# Altium footprint library Standard_SMD.PcbLib: 65 footprints (part 1 of 5)
Each footprint in its own frame and in the unit in brackets; x right, y up, seen from the top. Pads: shape width x height; smd on the part's side, far side on the other; paste and mask are expansions set on the pad; w line width, h text height; cw(c..) or ccw(c..) is an arc to the next point about the centre after c.
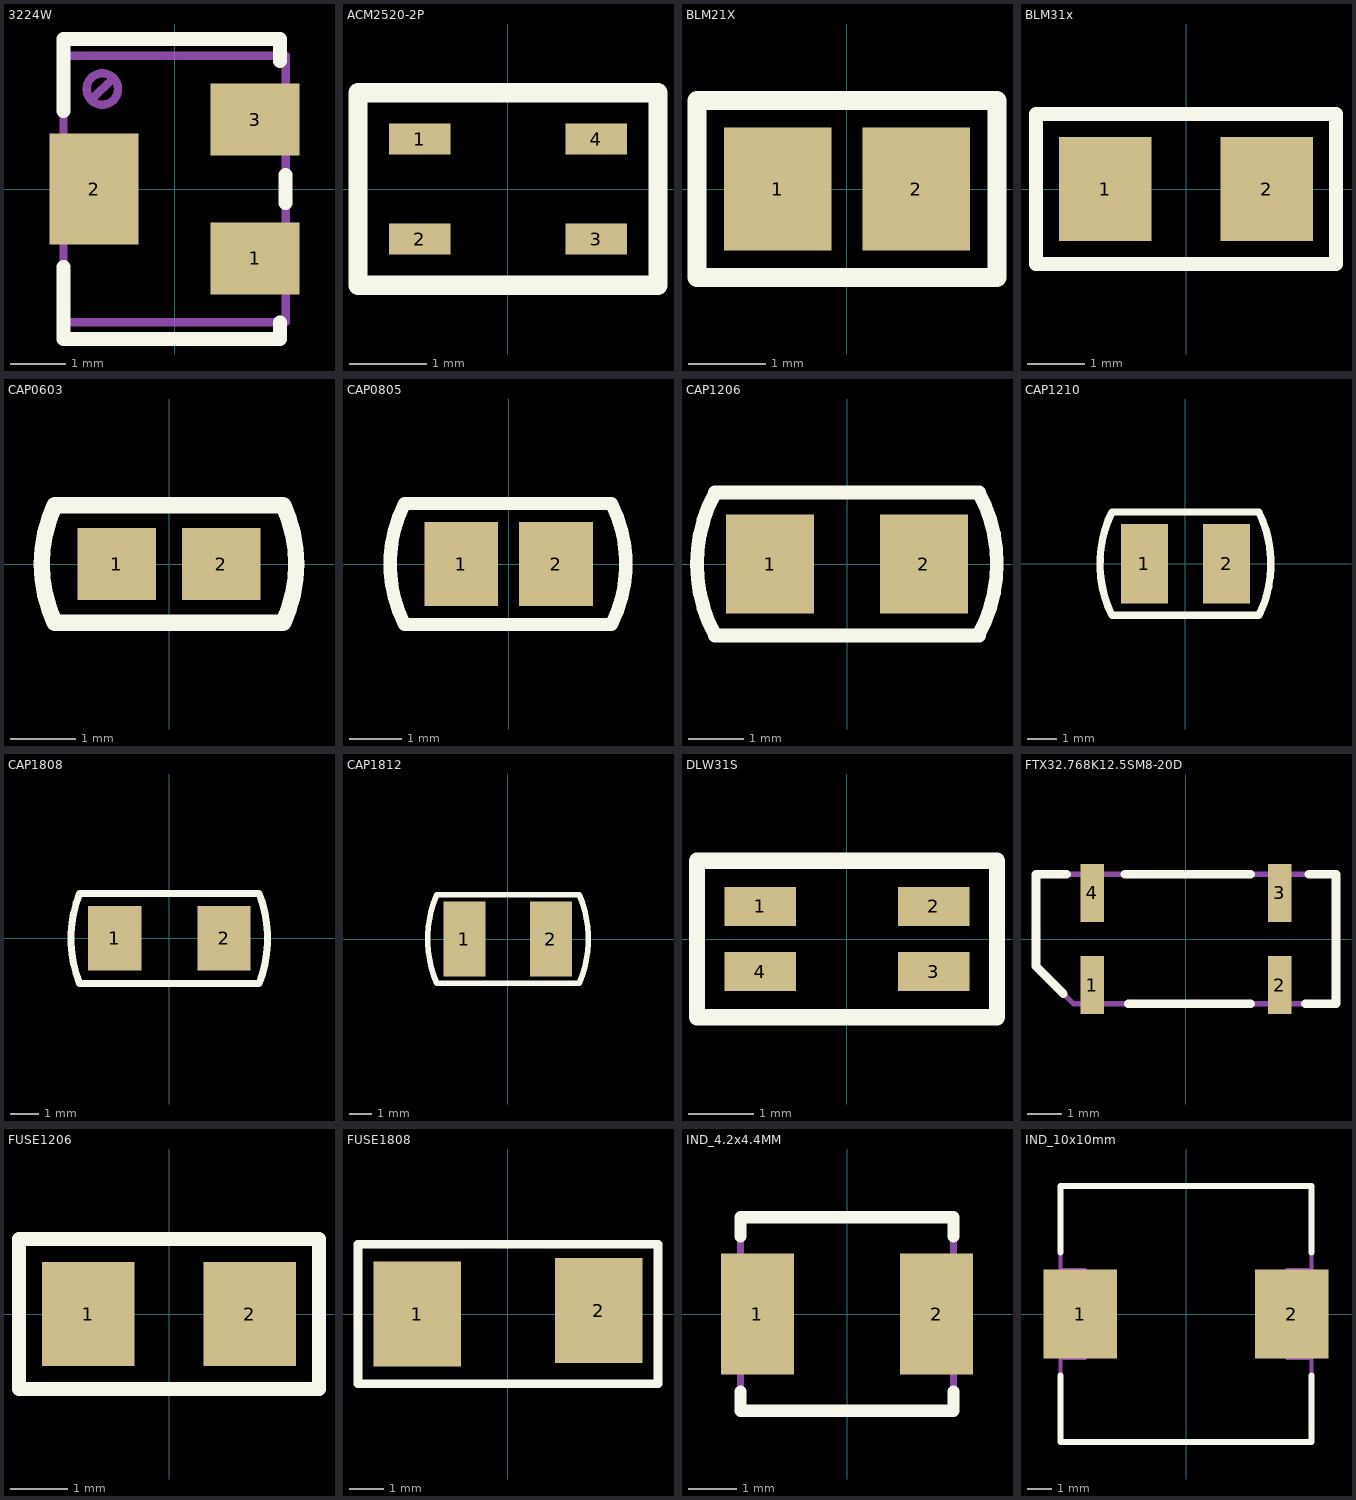
[diagram p0: the footprints below, top view; thin cyan lines are the x and y axes]

## 3224W [mm]
pads (3):
  rect 1.6x1.3 smd: 1(1.45,-1.25) 3(1.45,1.25)
  rect 1.6x2 smd: 2(-1.45,0)
Top Overlay:
  lines w0.25: -2,-1.4 -2,-2.7 1.9,-2.7 1.9,-2.4 ; -2,1.4 -2,2.7 1.9,2.7 1.9,2.3 ; 2,-0.25 2,0.25
Top Assembly:
  circle w0.15: c-1.3,1.8 r0.283
  lines w0.15: -1.5,1.6 -1.1,2 ; -2,-2.4 2,-2.4 2,2.4 -2,2.4 -2,-2.4
3D body "3224W-Bourns.step": height 5.3, standoff 0, extent -1.95,-2.4 1.95,2.4

## ACM2520-2P [mm]
pads (4):
  rect 0.8x0.4 smd: 1(-1.15,0.65) 2(-1.15,-0.65) 3(1.15,-0.65) 4(1.15,0.65)
Top Overlay:
  lines w0.25: -1.95,-1.25 1.95,-1.25 1.95,1.25 -1.95,1.25 -1.95,-1.25
Top Assembly:
  lines w0.15: -1.95,-1.25 1.95,-1.25 1.95,1.25 -1.95,1.25 -1.95,-1.25
3D body "acm2520_4PIN.step": height 1.2, standoff 0, extent -1.25,-1 1.25,1

## BLM21X [mm]
pads (2):
  rect 1.4x1.6 smd: 1(-0.9,0) 2(0.9,0)
Top Overlay:
  lines w0.25: -1.95,-1.15 1.95,-1.15 1.95,1.15 -1.95,1.15 -1.95,-1.15
Top Assembly:
  lines w0.15: -1.95,-1.15 1.95,-1.15 1.95,1.15 -1.95,1.15 -1.95,-1.15
3D body "ind_0805.step": height 1.31, standoff 0.01, extent -1,-0.625 1,0.625

## BLM31x [mm]
pads (2):
  rect 1.6x1.8 smd: 1(-1.4,0) 2(1.4,0)
Top Overlay:
  lines w0.25: -2.6,-1.3 2.6,-1.3 2.6,1.3 -2.6,1.3 -2.6,-1.3
Top Assembly:
  lines w0.15: -2.6,-1.3 2.6,-1.3 2.6,1.3 -2.6,1.3 -2.6,-1.3
3D body "BLM31.step": height 1.11, standoff -0.01, extent -1.6,-0.81 1.6,0.81

## CAP0603 [mm]
pads (2):
  rect 1.2x1.1 smd: 1(-0.8,0) 2(0.8,0)
Top Overlay:
  lines w0.25: -1.75,-0.9 cw(c0.174,0) -1.75,0.9 1.75,0.9 cw(c-0.174,0) 1.75,-0.9 -1.75,-0.9
Top Assembly:
  lines w0.15: -1.75,-0.9 cw(c0.174,0) -1.75,0.9 1.75,0.9 cw(c-0.174,0) 1.75,-0.9 -1.75,-0.9
3D body "cap_0603.step": height 0.86, standoff 0, extent -0.8,-0.4 0.8,0.4

## CAP0805 [mm]
pads (2):
  rect 1.4x1.6 smd: 1(-0.9,0) 2(0.9,0)
Top Overlay:
  lines w0.25: -1.975,-1.15 cw(c0.292,0) -1.975,1.15 1.95,1.15 cw(c-0.317,0) 1.95,-1.15 -1.975,-1.15
Top Assembly:
  lines w0.15: -1.975,-1.15 cw(c0.292,0) -1.975,1.15 1.95,1.15 cw(c-0.317,0) 1.95,-1.15 -1.975,-1.15
3D body "cap_0805.step": height 1.27, standoff 0, extent -1,-0.65 1,0.65

## CAP1206 [mm]
pads (2):
  rect 1.6x1.8 smd: 1(-1.4,0) 2(1.4,0)
Top Overlay:
  lines w0.25: 2.4,-1.3 -2.4,-1.3 cw(c0,0) -2.4,1.3 2.4,1.3 cw(c0.019,0.011) 2.4,-1.279
Top Assembly:
  lines w0.15: 2.4,-1.3 -2.4,-1.3 cw(c0,0) -2.4,1.3 2.4,1.3 cw(c0.019,0.011) 2.4,-1.279
3D body "cap_1206.step": height 1.4, standoff 0, extent -1.6,-0.8 1.6,0.8

## CAP1210 [mm]
pads (2):
  rect 1.6x2.7 smd: 1(-1.4,0) 2(1.4,0)
Top Overlay:
  lines w0.25: -2.526,-1.712 cw(c1.089,0) -2.5,1.766 ; -2.5,-1.758 2.5,-1.758 ; -2.5,1.765 2.5,1.765 ; 2.5,1.766 cw(c-1.089,0) 2.526,-1.712
Top Assembly:
  lines w0.15: -2.486,-1.726 cw(c1.129,-0.014) -2.46,1.752 ; -2.459,-1.772 2.54,-1.772 ; -2.46,1.751 2.54,1.751 cw(c-1.049,-0.014) 2.566,-1.726
3D body "cap_1210.step": height 1.4, standoff 0, extent -1.6,-1.25 1.6,1.25

## CAP1808 [mm]
pads (2):
  rect 1.9x2.3 smd: 1(-1.95,0) 2(1.95,0)
Top Overlay:
  lines w0.25: -3.2,-1.6 cw(c0.917,0) -3.2,1.6 3.2,1.6 cw(c-0.917,0) 3.2,-1.6 -3.2,-1.6
Top Assembly:
  lines w0.15: -3.223,-1.638 cw(c0.894,-0.038) -3.223,1.562 3.177,1.562 cw(c-0.939,-0.038) 3.177,-1.638 -3.223,-1.638
3D body "cap1808.STEP": height 1.61, standoff 0.01, extent -2.25,-1 2.25,1

## CAP1812 [mm]
pads (2):
  rect 1.9x3.4 smd: 1(-1.95,0) 2(1.95,0)
Top Overlay:
  lines w0.25: -3.2,-2 3.2,-2 ; -3.2,2 3.2,2 ; -3.2,-2 cw(c1.588,0) -3.2,2 ; 3.23,-1.999 ccw(c-1.557,0.001) 3.23,2.001
Top Assembly:
  lines w0.15: -3.2,-2 3.2,-2 ; -3.2,2 3.2,2 ; -3.2,-2 cw(c1.588,0) -3.2,2 ; 3.23,-1.999 ccw(c-1.557,0.001) 3.23,2.001
3D body "cap_1812.step": height 1.55, standoff 0, extent -2.3,-1.6 2.3,1.6

## DLW31S [mm]
pads (4):
  rect 1.1x0.6 smd: 1(-1.33,0.5) 2(1.33,0.5) 3(1.33,-0.5) 4(-1.33,-0.5)
Top Overlay:
  lines w0.25: -2.3,-1.2 2.3,-1.2 2.3,1.2 -2.3,1.2 -2.3,-1.2
Top Assembly:
  lines w0.15: -2.3,-1.2 2.3,-1.2 2.3,1.2 -2.3,1.2 -2.3,-1.2
3D body "DLW31SN900SQ2L.STEP": height 2.1, standoff 0, extent -1.6,-0.8 1.6,0.8

## FTX32.768K12.5SM8-20D [mm]
pads (4):
  rect 0.7x1.7 smd: 1(-2.75,-1.35) 2(2.75,-1.35) 3(2.75,1.35) 4(-2.75,1.35)
Top Overlay:
  lines w0.25: -3.6,-1.6 -4.4,-0.8 -4.4,1.9 -3.5,1.9 ; -1.8,1.9 1.9,1.9 ; -1.7,-1.9 1.9,-1.9 ; 3.5,-1.9 4.4,-1.9 4.4,1.9 3.6,1.9
Top Assembly:
  lines w0.15: -4.4,-0.8 -3.3,-1.9 4.4,-1.9 4.4,1.9 -4.4,1.9 -4.4,-0.8
3D body "85smx.step": height 2.51, standoff 0.01, extent -4.35,-1.9 4.35,1.9

## FUSE1206 [mm]
pads (2):
  rect 1.6x1.8 smd: 1(-1.4,0) 2(1.4,0)
Top Overlay:
  lines w0.25: -2.6,-1.3 -2.6,1.3 2.6,1.3 2.6,-1.3 -2.6,-1.3
Top Assembly:
  lines w0.15: -2.6,-1.3 -2.6,1.3 2.6,1.3 2.6,-1.3 -2.6,-1.3
3D body "fuse_silicon_1206L.step": height 0.5, standoff 0, extent -1.75,-0.92 1.75,0.92

## FUSE1808 [mm]
pads (2):
  rect 2.5x3 smd: 1(-2.6,0) 2(2.6,0.1)
Top Overlay:
  lines w0.25: -4.3,-2 4.3,-2 4.3,2 -4.3,2 -4.3,-2
Top Assembly:
  lines w0.15: -4.3,-2 4.3,-2 4.3,2 -4.3,2 -4.3,-2
3D body "FUSE_NANO2.STEP": height 2.7, standoff 0, extent -3.05,-1.35 3.05,1.35

## IND_4.2x4.4MM [mm]
pads (2):
  rect 1.5x2.5 smd: 1(-1.85,0) 2(1.85,0)
Top Overlay:
  lines w0.25: -2.2,-1.6 -2.2,-2 2.2,-2 2.2,-1.6 ; -2.2,1.6 -2.2,2 2.2,2 2.2,1.6
Top Assembly:
  lines w0.15: -2.2,-2 2.2,-2 2.2,2 -2.2,2 -2.2,-2
3D body "CIP0420.step": height 2.2, standoff 0, extent -2.15,-2 2.15,2

## IND_10x10mm [mm]
pads (2):
  rect 3x3.6 smd: 1(-4.3,0) 2(4.3,0)
Top Overlay:
  lines w0.25: -5.1,-2.5 -5.1,-5.2 5.1,-5.2 5.1,-2.5 ; -5.1,2.5 -5.1,5.2 5.1,5.2 5.1,2.5
Top Assembly:
  lines w0.15: -5.1,-5.2 5.1,-5.2 5.1,5.2 -5.1,5.2 -5.1,-5.2 ; -5.1,-1.8 -4.1,-1.8 -4.1,1.8 -5.1,1.8 -5.1,-1.8 ; 4.1,-1.8 5.1,-1.8 5.1,1.8 4.1,1.8 4.1,-1.8
3D body "B82464G4.STEP": height 4.81, standoff 0, extent -5.2,-5.2 5.2,5.2